# EAGLE library part 418121270808 (library Eagle_Wuerth_Elektronik_Switch)
WS-IC-2.54 mm small compact SMD Dip Switch with raised actuator,16 pins,8 poles
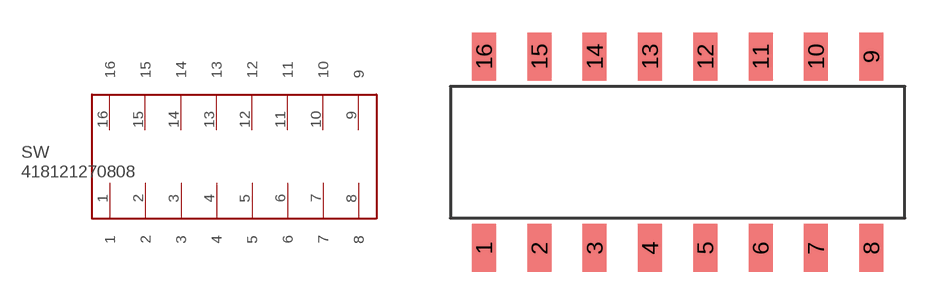
[diagram p44: symbol with the pads of 418121270808; footprint 418121270808]

Designator prefix SW

## 418121270808  [418121270808]
1  1
2  2
3  3
4  4
5  5
6  6
7  7
8  8
9  9
10  10
11  11
12  12
13  13
14  14
15  15
16  16

## Footprint 418121270808 (pad centres in mm)
WS-IC-2.54 mm small compact SMD Dip Switch with raised actuator,16 pins,8 poles
smd 1.1 x 2.2: 1 0,-4.4; 2 2.54,-4.4; 3 5.08,-4.4; 4 7.62,-4.4; 5 10.16,-4.4; 6 12.7,-4.4; 7 15.24,-4.4; 8 17.78,-4.4; 9 17.78,4.4; 10 15.24,4.4; 11 12.7,4.4; 12 10.16,4.4; 13 7.62,4.4; 14 5.08,4.4; 15 2.54,4.4; 16 0,4.4